# Altium integrated library USB_A_SMD.IntLib: 2 symbols
Pins are listed as number, name and electrical type; pins without a type are passive.

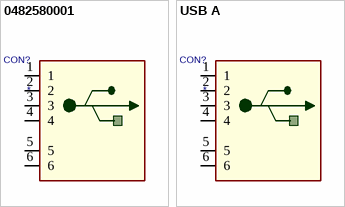
[diagram p0: symbols 0482580001 to USB A]

## 0482580001
designator CON?
ID: 0482580001; BUY_LINK: http://www.digikey.com/product-detail/en/0482580001/WM6294CT-ND/2804764; PDF: http://www.molex.com/pdm_docs/sd/482580001_sd.pdf; PRICE: 1.24000
footprint 0482580001 (Right Angle)
pins: 1, 2, 3, 4, 5, 6

## USB A
designator CON?
ID: USB - A; BUY_LINK: http://www.digikey.com/product-detail/en/AU-Y1006-2-R/AE10332-ND/2077795; PDF: http://www.assmann.us/specs/AU-Y1006-2-R.pdf; PRICE: 0.82000
footprint USB A (Right Angle)
pins: 1, 2, 3, 4, 5, 6